# Altium footprint library SOT95P230X110-3N.PcbLib: 1 footprints
Each footprint in its own frame and in the unit in brackets; x right, y up, seen from the top. Pads: shape width x height; smd on the part's side, far side on the other; paste and mask are expansions set on the pad; w line width, h text height; cw(c..) or ccw(c..) is an arc to the next point about the centre after c.
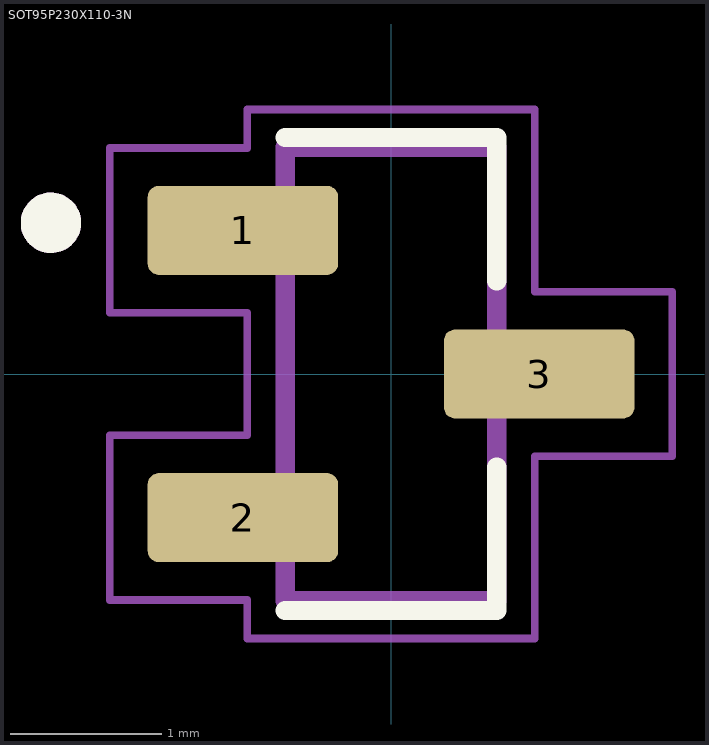
[diagram p0: the footprint, top view; thin cyan lines are the x and y axes]

## SOT95P230X110-3N [mm]
pads (3):
  rrect25% 1.26x0.59 smd: 1(-0.98,0.95) 2(-0.98,-0.95) 3(0.98,0)
Top Overlay:
  circle w0.2: c-2.25,1 r0.1
  lines w0.127: -0.7,-1.565 0.7,-1.565 0.7,-0.615 ; -0.7,1.565 0.7,1.565 0.7,0.615
Mechanical 13:
  circle w0.2: c-2.25,1 r0.1
  lines w0.127: -0.7,-1.5 0.7,-1.5 0.7,1.5 -0.7,1.5 -0.7,-1.5
Mechanical 15:
  lines w0.05: -1.86,-1.495 -0.95,-1.495 -0.95,-1.75 0.95,-1.75 0.95,-0.545 1.86,-0.545 1.86,0.545 0.95,0.545 0.95,1.75 -0.95,1.75 -0.95,1.495 -1.86,1.495 -1.86,0.405 -0.95,0.405 -0.95,-0.405 -1.86,-0.405 -1.86,-1.495
3D body "step_temp.STEP": height 1.1, standoff 0, extent -1.15,-1.45 1.15,1.45